# Altium footprint library Varistors PTH.PcbLib: 3 footprints
Each footprint in its own frame and in the unit in brackets; x right, y up, seen from the top. Pads: shape width x height; smd on the part's side, far side on the other; paste and mask are expansions set on the pad; w line width, h text height; cw(c..) or ccw(c..) is an arc to the next point about the centre after c.
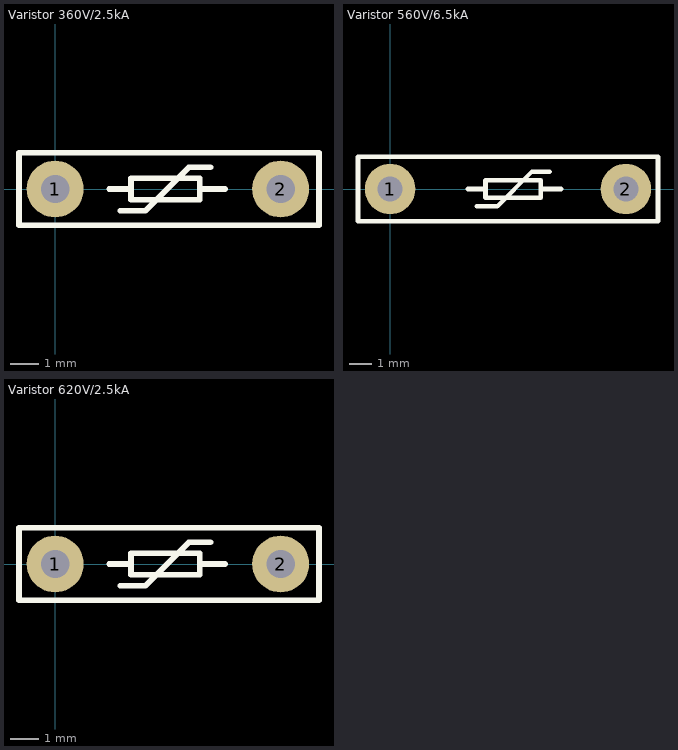
[diagram p0: the footprints below, top view; thin cyan lines are the x and y axes]

## Varistor 360V/2.5kA [mm] "360V 2.5kA Varistor 1 Circuit Through Hole Disc 10mm"
pads (2):
  round 2 hole 1: 1(0,0) 2(7.925,0)
Top Overlay:
  lines w0.2: 1.905,0 2.667,0 ; 2.286,-0.762 3.175,-0.762 4.699,0.762 5.461,0.762 ; 5.969,0 5.08,0 ; 2.667,0 2.667,-0.381 3.429,-0.381 4.445,-0.381 5.08,-0.381 5.08,0 ; 2.667,0 2.667,0.381 3.429,0.381 4.445,0.381 5.08,0.381 5.08,0 ; -1.27,-1.27 9.271,-1.27 9.271,1.27 -1.27,1.27 -1.27,-1.27
3D body "Varistor 10mm.step": height 16.41, standoff -2.59, extent -2.847,-4.594 10.772,4.595

## Varistor 560V/6.5kA [mm] "560V 6.5kA Varistor 1 Circuit Through Hole Disc 20mm"
pads (2):
  round 2.2 hole 1.1: 1(0,0) 2(10.3,0)
Top Overlay:
  lines w0.2: 3.405,0 4.167,0 ; 3.786,-0.762 4.675,-0.762 6.199,0.762 6.961,0.762 ; 7.469,0 6.58,0 ; 4.167,0 4.167,0.381 4.929,0.381 5.945,0.381 6.58,0.381 6.58,0 ; 4.167,0 4.167,-0.381 4.929,-0.381 5.945,-0.381 6.58,-0.381 6.58,0 ; -1.4,-1.4 -1.4,1.4 11.7,1.4 11.7,-1.4 -1.4,-1.4
3D body "Varistor 20mm.STEP": height 26.23, standoff -1.26, extent -5.973,-5.506 16.294,5.491

## Varistor 620V/2.5kA [mm] "620V 2.5kA Varistor 1 Circuit Through Hole Disc 10mm"
pads (2):
  round 2 hole 1: 1(0,0) 2(7.925,0)
Top Overlay:
  lines w0.2: 1.905,0 2.667,0 ; 2.286,-0.762 3.175,-0.762 4.699,0.762 5.461,0.762 ; 5.969,0 5.08,0 ; 2.667,0 2.667,-0.381 3.429,-0.381 4.445,-0.381 5.08,-0.381 5.08,0 ; 2.667,0 2.667,0.381 3.429,0.381 4.445,0.381 5.08,0.381 5.08,0 ; -1.27,-1.27 9.271,-1.27 9.271,1.27 -1.27,1.27 -1.27,-1.27
3D body "Varistor 10mm.step": height 16.41, standoff -2.59, extent -2.847,-4.594 10.772,4.595